# EAGLE library part TEMP_MAX31865 (library graftel-internal-ic)
MAX31865 - Resistance to Digital Convertor for Platinum Resistance Temperature Detectors (RTDs) Handles 100 ohm - 1K ohm (at 0°C) platinum RTDs. 15-bit ADC resolution (nominally 0.03125°C), 0.5°C accuracy.
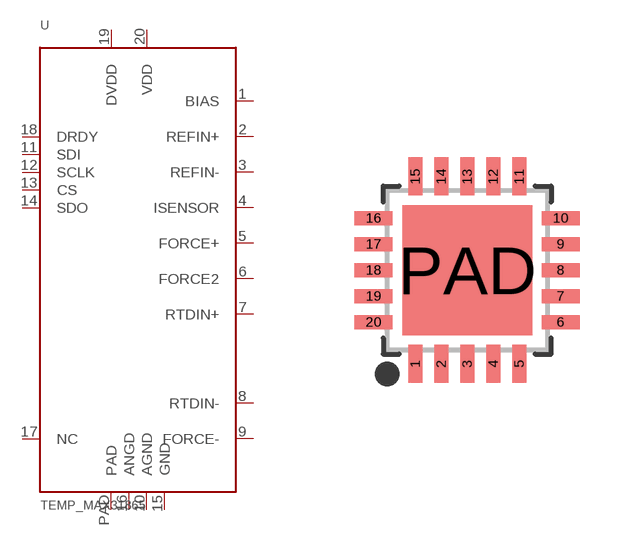
[diagram p58: symbol with the pads of QFN20_4MM_0.65MM; footprint QFN20_4MM_0.65MM]

Designator prefix U

## TEMP_MAX31865  [QFN20_4MM_0.65MM]
1  BIAS  out
2  REFIN+
3  REFIN-
4  ISENSOR  in
5  FORCE+  out
6  FORCE2
7  RTDIN+
8  RTDIN-
9  FORCE-  in
10  AGND  pwr
11  SDI  in
12  SCLK  in
13  CS  in
14  SDO  out
15  GND  pwr
16  ANGD  pwr
17  NC  nc
18  DRDY  out
19  DVDD  pwr
20  VDD  pwr
PAD  PAD  pwr

## Footprint QFN20_4MM_0.65MM (pad centres in mm)
Source: http://pdfserv.maximintegrated.com/land_patterns/90-0010.PDF
smd 0.35 x 0.95: 1 -1.3,-2.34; 2 -0.65,-2.34; 3 0,-2.34; 4 0.65,-2.34; 5 1.3,-2.34; 11 1.3,2.34; 12 0.65,2.34; 13 0,2.34; 14 -0.65,2.34; 15 -1.3,2.34
smd 0.95 x 0.35: 6 2.34,-1.3; 7 2.34,-0.65; 8 2.34,0; 9 2.34,0.65; 10 2.34,1.3; 16 -2.34,1.3; 17 -2.34,0.65; 18 -2.34,0; 19 -2.34,-0.65; 20 -2.34,-1.3
smd 3.25 x 3.25: PAD 0,0